# Altium footprint library Package_TO_SOT_SMD.PcbLib: 125 footprints (part 1 of 8)
Each footprint in its own frame and in the unit in brackets; x right, y up, seen from the top. Pads: shape width x height; smd on the part's side, far side on the other; paste and mask are expansions set on the pad; w line width, h text height; cw(c..) or ccw(c..) is an arc to the next point about the centre after c.
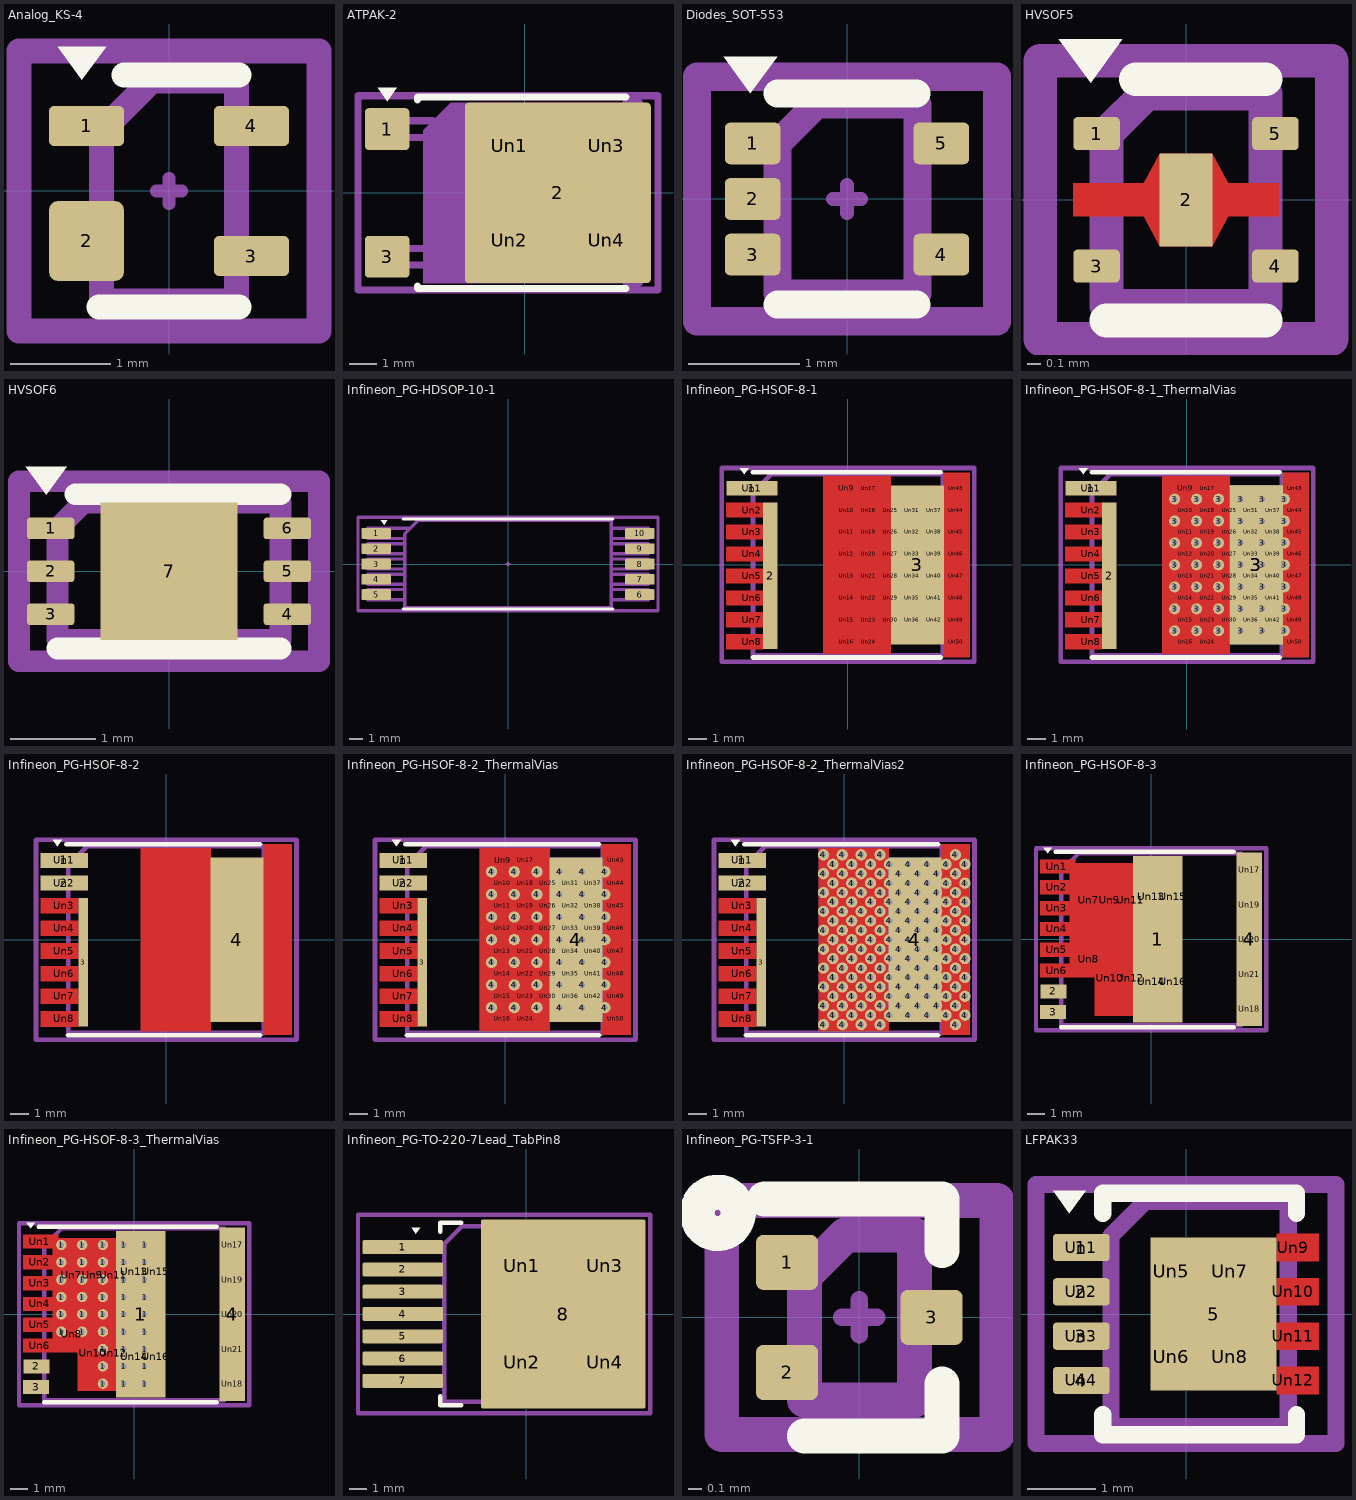
[diagram p0: the footprints below, top view; thin cyan lines are the x and y axes]

## Analog_KS-4 [mm] "Analog_KS-4"
pads (4):
  rrect25% 0.75x0.4 smd: 1(-0.825,0.65) 3(0.825,-0.65) 4(0.825,0.65)
  rrect25% 0.75x0.8 smd: 2(-0.825,-0.5)
F.SilkS:
  region: -0.87,1.11 -1.11,1.44 -0.63,1.44
  lines w0.254: -0.7,-1.16 0.7,-1.16 ; -0.45,1.16 0.7,1.16
Top Component Center:
  lines w0.127: -0.127,0 0.127,0 ; 0,-0.127 0,0.127
Top Assembly:
  lines w0.254: -0.675,-1.1 -0.675,0.6 -0.175,1.1 0.675,1.1 0.675,-1.1 -0.675,-1.1
Top Courtyard:
  lines w0.254: -1.5,-1.4 -1.5,1.4 1.5,1.4 1.5,-1.4 -1.5,-1.4
Top Designator:
  text ".Designator" at -2.253,-0.301 h1
3D body "Analog_KS-4.step": height 1, standoff 0, extent -1.05,-1 1.05,1

## ATPAK-2 [mm] "ATPAK-2"
pads (7):
  rrect17% 1.6x1.5 smd: 1(-4.95,2.3) 3(-4.95,-2.3)
  rrect4% 6.7x6.5 smd: 2(1.2,0)
  rrect8% 3.2x3.1 on Top Paste: Un1(-0.55,1.7) Un2(-0.55,-1.7) Un3(2.95,1.7) Un4(2.95,-1.7)
F.SilkS:
  region: -4.95,3.31 -5.29,3.78 -4.61,3.78
  lines w0.254: -3.85,-3.35 -3.85,-3.45 3.65,-3.45 ; -3.85,3.35 -3.85,3.45 3.65,3.45
Top Component Center:
  lines w0.127: -0.127,0 0.127,0 ; 0,-0.127 0,0.127
Top Assembly:
  region: 3.65,-3.25 -3.65,-3.25 -3.65,2.25 -2.65,3.25 3.65,3.25
  lines w0.254: -3.65,-2.6 -5.35,-2.6 -5.35,-2 -3.65,-2 ; -3.65,2 -5.35,2 -5.35,2.6 -3.3,2.6 ; 3.65,-3.25 4.15,-3.25 4.15,3.25 3.65,3.25
Top Courtyard:
  lines w0.254: -6,-3.5 -6,3.5 4.81,3.5 4.81,-3.5 -6,-3.5
Top Designator:
  text ".Designator" at -3.432,-0.345 h1.52
3D body "ATPAK-2.step": height 1.52, standoff 0, extent -5.35,-3.25 4.15,3.25

## Diodes_SOT-553 [mm] "Diodes_SOT-553"
pads (5):
  rrect25% 0.5x0.375 smd: 1(-0.85,0.5) 2(-0.85,0) 3(-0.85,-0.5) 4(0.85,-0.5) 5(0.85,0.5)
F.SilkS:
  region: -0.87,0.95 -1.11,1.28 -0.63,1.28
  lines w0.254: -0.625,-0.95 0.625,-0.95 ; -0.625,0.95 0.625,0.95
Top Component Center:
  lines w0.127: -0.127,0 0.127,0 ; 0,-0.127 0,0.127
Top Assembly:
  lines w0.254: -0.275,0.85 -0.625,0.5 -0.625,-0.85 0.635,-0.85 0.635,0.85 -0.25,0.85
Top Courtyard:
  lines w0.254: -1.35,-1.1 1.35,-1.1 1.35,1.1 -1.35,1.1 -1.35,-1.1
Top Designator:
  text ".Designator" at -2.253,-0.226 h1

## HVSOF5 [mm] "HVSOF5"
pads (5):
  rrect25% 0.35x0.25 smd: 1(-0.675,0.5) 3(-0.675,-0.5) 4(0.675,-0.5) 5(0.675,0.5)
  rect 0.4x0.7 smd: 2(0,0)
F.Cu:
  region: 0.32,0.125 0.7,0.125 0.7,-0.125 0.32,-0.125 0.2,-0.35 -0.2,-0.35 -0.32,-0.125 -0.85,-0.125 -0.85,0.125 -0.32,0.125 -0.2,0.35 0.2,0.35
F.SilkS:
  region: -0.72,0.884 -0.96,1.214 -0.48,1.214
  lines w0.254: -0.6,-0.91 0.6,-0.91 ; -0.38,0.91 0.6,0.91
F.Paste:
  region: 0.32,0.125 0.7,0.125 0.7,-0.125 0.32,-0.125 0.2,-0.35 -0.2,-0.35 -0.32,-0.125 -0.85,-0.125 -0.85,0.125 -0.32,0.125 -0.2,0.35 0.2,0.35
F.Mask:
  region: 0.32,0.125 0.7,0.125 0.7,-0.125 0.32,-0.125 0.2,-0.35 -0.2,-0.35 -0.32,-0.125 -0.85,-0.125 -0.85,0.125 -0.32,0.125 -0.2,0.35 0.2,0.35
Top Component Center:
  lines w0.127: -0.127,0 0.127,0 ; 0,-0.127 0,0.127
Top Assembly:
  lines w0.254: -0.6,-0.8 0.6,-0.8 0.6,0.8 -0.3,0.8 -0.6,0.5 -0.6,-0.8
Top Courtyard:
  lines w0.254: -1.1,-1.05 1.1,-1.05 1.1,1.05 -1.1,1.05 -1.1,-1.05
Top Designator:
  text ".Designator" at -2.253,-0.301 h1
3D body "HVSOF5.step": height 0.63, standoff 0, extent -0.8,-0.8 0.8,0.8

## HVSOF6 [mm] "HVSOF6"
pads (7):
  rrect25% 0.55x0.25 smd: 1(-1.38,0.5) 2(-1.38,0) 3(-1.38,-0.5) 4(1.38,-0.5) 5(1.38,0) 6(1.38,0.5)
  rect 1.6x1.6 smd: 7(0,0)
F.SilkS:
  region: -1.43,0.89 -1.67,1.22 -1.19,1.22
  lines w0.254: -1.3,-0.9 1.3,-0.9 ; -1.09,0.9 1.3,0.9
Top Component Center:
  lines w0.127: -0.127,0 0.127,0 ; 0,-0.127 0,0.127
Top Assembly:
  lines w0.254: -1.3,-0.8 -1.3,0.5 -1,0.8 1.3,0.8 1.3,-0.8 -1.3,-0.8
Top Courtyard:
  lines w0.254: -1.75,-1.05 -1.75,1.05 1.75,1.05 1.75,-1.05 -1.75,-1.05
Top Designator:
  text ".Designator" at -2.705,-0.272 h1.2
3D body "HVSOF6.step": height 0.78, standoff 0, extent -1.5,-0.8 1.5,0.8

## Infineon_PG-HDSOP-10-1 [mm] "Infineon_PG-HDSOP-10-1"
pads (10):
  rrect25% 2.2x0.8 smd: 1(-9.85,2.28) 2(-9.85,1.14) 3(-9.85,0) 4(-9.85,-1.14) 5(-9.85,-2.28) 6(9.85,-2.28) 7(9.85,-1.14) 8(9.85,0) 9(9.85,1.14) 10(9.85,2.28)
F.SilkS:
  region: -9.25,2.94 -9.49,3.27 -9.01,3.27
  lines w0.254: -7.81,-3.36 7.81,-3.36 ; -7.81,3.36 7.81,3.36
Top Component Center:
  lines w0.127: -0.127,0 0.127,0 ; 0,-0.127 0,0.127
Top Assembly:
  lines w0.254: -7.7,-2.655 -10.48,-2.655 -10.48,-1.905 -7.7,-1.905 ; -7.7,-1.515 -10.48,-1.515 -10.48,-0.765 -7.7,-0.765 ; -7.7,-0.375 -10.48,-0.375 -10.48,0.375 -7.7,0.375 ; -7.7,0.765 -10.48,0.765 -10.48,1.515 -7.7,1.515 ; -7.7,1.905 -10.48,1.905 -10.48,2.655 -7.3,2.655 ; 7.7,-2.655 10.48,-2.655 10.48,-1.905 7.7,-1.905 ; 7.7,-1.515 10.48,-1.515 10.48,-0.765 7.7,-0.765 ; 7.7,-0.375 10.48,-0.375 10.48,0.375 7.7,0.375 ; 7.7,0.765 10.48,0.765 10.48,1.515 7.7,1.515 ; 7.7,1.905 10.48,1.905 10.48,2.655 7.7,2.655 ; -7.7,-3.25 -7.7,2.25 -6.7,3.25 7.7,3.25 7.7,-3.25 -7.7,-3.25
Top Courtyard:
  lines w0.254: -11.2,-3.5 -11.2,3.5 11.2,3.5 11.2,-3.5 -11.2,-3.5
Top Designator:
  text ".Designator" at -3.432,-0.345 h1.52

## Infineon_PG-HSOF-8-1 [mm] "Infineon_PG-HSOF-8-1"
pads (53):
  rect 2.8x0.8 smd: 1(-5.25,4.2)
  rect 0.8x8 smd: 2(-4.25,-0.6)
  rect 2.9x8.7 smd: 3(3.8,0)
  rect 2.6x0.7 on Top Paste: Un1(-5.25,4.2) Un2(-5.25,3) Un3(-5.25,1.8) Un4(-5.25,0.6) Un5(-5.25,-0.6) Un6(-5.25,-1.8) Un7(-5.25,-3) Un8(-5.25,-4.2)
  round 1 on Top Paste: Un9(-0.07,4.2) Un10(-0.07,3) Un11(-0.07,1.8) Un12(-0.07,0.6) Un13(-0.07,-0.6) Un14(-0.07,-1.8) Un15(-0.07,-3) Un16(-0.07,-4.2) Un17(1.13,4.2) Un18(1.13,3) Un19(1.13,1.8) Un20(1.13,0.6) Un21(1.13,-0.6) Un22(1.13,-1.8) Un23(1.13,-3) Un24(1.13,-4.2) Un25(2.33,3) Un26(2.33,1.8) Un27(2.33,0.6) Un28(2.33,-0.6) Un29(2.33,-1.8) Un30(2.33,-3) Un31(3.53,3) Un32(3.53,1.8) Un33(3.53,0.6) Un34(3.53,-0.6) Un35(3.53,-1.8) Un36(3.53,-3) Un37(4.73,3) Un38(4.73,1.8) Un39(4.73,0.6) Un40(4.73,-0.6) Un41(4.73,-1.8) Un42(4.73,-3) Un43(5.93,4.2) Un44(5.93,3) Un45(5.93,1.8) Un46(5.93,0.6) Un47(5.93,-0.6) Un48(5.93,-1.8) Un49(5.93,-3) Un50(5.93,-4.2)
F.Cu:
  region: -4.65,2.6 -6.65,2.6 -6.65,3.4 -4.65,3.4
  region: -4.65,1.4 -6.65,1.4 -6.65,2.2 -4.65,2.2
  region: -4.65,0.2 -6.65,0.2 -6.65,1 -4.65,1
  region: -4.65,-1 -6.65,-1 -6.65,-0.2 -4.65,-0.2
  region: -4.65,-2.2 -6.65,-2.2 -6.65,-1.4 -4.65,-1.4
  region: -4.65,-3.4 -6.65,-3.4 -6.65,-2.6 -4.65,-2.6
  region: -4.65,-4.6 -6.65,-4.6 -6.65,-3.8 -4.65,-3.8
  region: 6.65,-5.05 5.25,-5.05 5.25,5.05 6.65,5.05
  region: 2.35,-4.85 -1.35,-4.85 -1.35,4.85 2.35,4.85
F.SilkS:
  region: -5.66,4.96 -5.9,5.29 -5.42,5.29
  lines w0.254: -5.2,-5.06 5.07,-5.06 ; -5.2,5.06 5.07,5.06
F.Mask:
  region: -4.65,2.6 -6.65,2.6 -6.65,3.4 -4.65,3.4
  region: -4.65,1.4 -6.65,1.4 -6.65,2.2 -4.65,2.2
  region: -4.65,0.2 -6.65,0.2 -6.65,1 -4.65,1
  region: -4.65,-1 -6.65,-1 -6.65,-0.2 -4.65,-0.2
  region: -4.65,-2.2 -6.65,-2.2 -6.65,-1.4 -4.65,-1.4
  region: -4.65,-3.4 -6.65,-3.4 -6.65,-2.6 -4.65,-2.6
  region: -4.65,-4.6 -6.65,-4.6 -6.65,-3.8 -4.65,-3.8
  region: 6.65,-5.05 5.25,-5.05 5.25,5.05 6.65,5.05
  region: 2.35,-4.85 -1.35,-4.85 -1.35,4.85 2.35,4.85
Top Component Center:
  lines w0.127: -0.127,0 0.127,0 ; 0,-0.127 0,0.127
Top Assembly:
  lines w0.254: -5.188,-4.95 -5.188,3.95 -4.187,4.95 5.188,4.95 5.188,-4.95 -5.188,-4.95
Top Courtyard:
  lines w0.254: -6.9,-5.3 -6.9,5.3 6.9,5.3 6.9,-5.3 -6.9,-5.3
Top Designator:
  text ".Designator" at -3.432,-0.345 h1.52
3D body "Infineon_PG-HSOF-8-1.step": height 2.32, standoff 0, extent -5.787,-4.95 5.887,4.95

## Infineon_PG-HSOF-8-1_ThermalVias [mm] "Infineon_PG-HSOF-8-1_ThermalVias"
pads (96):
  rect 2.8x0.8 smd: 1(-5.25,4.2)
  rect 0.8x8 smd: 2(-4.25,-0.6)
  round 0.6 hole 0.3: 3(-0.67,-3.6) 3(-0.67,-2.4) 3(-0.67,-1.2) 3(-0.67,0) 3(-0.67,1.2) 3(-0.67,2.4) 3(-0.67,3.6) 3(0.53,-3.6) 3(0.53,-2.4) 3(0.53,-1.2) 3(0.53,0) 3(0.53,1.2) 3(0.53,2.4) 3(0.53,3.6) 3(1.73,-3.6) 3(1.73,-2.4) 3(1.73,-1.2) 3(1.73,0) 3(1.73,1.2) 3(1.73,2.4) 3(1.73,3.6) 3(2.93,-3.6) 3(2.93,-2.4) 3(2.93,-1.2) 3(2.93,0) 3(2.93,1.2) 3(2.93,2.4) 3(2.93,3.6) 3(4.13,-3.6) 3(4.13,-2.4) 3(4.13,-1.2) 3(4.13,0) 3(4.13,1.2) 3(4.13,2.4) 3(4.13,3.6) 3(5.33,-3.6) 3(5.33,-2.4) 3(5.33,-1.2) 3(5.33,0) 3(5.33,1.2) 3(5.33,2.4) 3(5.33,3.6)
  rect 2.9x8.7 smd: 3(3.8,0)
  rect 2.9x8.7 smd far side: 3(3.8,0)
  rect 2.6x0.7 on Top Paste: Un1(-5.25,4.2) Un2(-5.25,3) Un3(-5.25,1.8) Un4(-5.25,0.6) Un5(-5.25,-0.6) Un6(-5.25,-1.8) Un7(-5.25,-3) Un8(-5.25,-4.2)
  round 1 on Top Paste: Un9(-0.07,4.2) Un10(-0.07,3) Un11(-0.07,1.8) Un12(-0.07,0.6) Un13(-0.07,-0.6) Un14(-0.07,-1.8) Un15(-0.07,-3) Un16(-0.07,-4.2) Un17(1.13,4.2) Un18(1.13,3) Un19(1.13,1.8) Un20(1.13,0.6) Un21(1.13,-0.6) Un22(1.13,-1.8) Un23(1.13,-3) Un24(1.13,-4.2) Un25(2.33,3) Un26(2.33,1.8) Un27(2.33,0.6) Un28(2.33,-0.6) Un29(2.33,-1.8) Un30(2.33,-3) Un31(3.53,3) Un32(3.53,1.8) Un33(3.53,0.6) Un34(3.53,-0.6) Un35(3.53,-1.8) Un36(3.53,-3) Un37(4.73,3) Un38(4.73,1.8) Un39(4.73,0.6) Un40(4.73,-0.6) Un41(4.73,-1.8) Un42(4.73,-3) Un43(5.93,4.2) Un44(5.93,3) Un45(5.93,1.8) Un46(5.93,0.6) Un47(5.93,-0.6) Un48(5.93,-1.8) Un49(5.93,-3) Un50(5.93,-4.2)
F.Cu:
  region: -4.65,2.6 -6.65,2.6 -6.65,3.4 -4.65,3.4
  region: -4.65,1.4 -6.65,1.4 -6.65,2.2 -4.65,2.2
  region: -4.65,0.2 -6.65,0.2 -6.65,1 -4.65,1
  region: -4.65,-1 -6.65,-1 -6.65,-0.2 -4.65,-0.2
  region: -4.65,-2.2 -6.65,-2.2 -6.65,-1.4 -4.65,-1.4
  region: -4.65,-3.4 -6.65,-3.4 -6.65,-2.6 -4.65,-2.6
  region: -4.65,-4.6 -6.65,-4.6 -6.65,-3.8 -4.65,-3.8
  region: 6.65,-5.05 5.25,-5.05 5.25,5.05 6.65,5.05
  region: 2.35,-4.85 -1.35,-4.85 -1.35,4.85 2.35,4.85
B.Cu:
  region: 6.65,-5.05 5.25,-5.05 5.25,5.05 6.65,5.05
  region: 2.35,-4.85 -1.35,-4.85 -1.35,4.85 2.35,4.85
F.SilkS:
  region: -5.66,4.96 -5.9,5.29 -5.42,5.29
  lines w0.254: -5.2,-5.06 5.07,-5.06 ; -5.2,5.06 5.07,5.06
F.Mask:
  region: -4.65,2.6 -6.65,2.6 -6.65,3.4 -4.65,3.4
  region: -4.65,1.4 -6.65,1.4 -6.65,2.2 -4.65,2.2
  region: -4.65,0.2 -6.65,0.2 -6.65,1 -4.65,1
  region: -4.65,-1 -6.65,-1 -6.65,-0.2 -4.65,-0.2
  region: -4.65,-2.2 -6.65,-2.2 -6.65,-1.4 -4.65,-1.4
  region: -4.65,-3.4 -6.65,-3.4 -6.65,-2.6 -4.65,-2.6
  region: -4.65,-4.6 -6.65,-4.6 -6.65,-3.8 -4.65,-3.8
  region: 6.65,-5.05 5.25,-5.05 5.25,5.05 6.65,5.05
  region: 2.35,-4.85 -1.35,-4.85 -1.35,4.85 2.35,4.85
Top Component Center:
  lines w0.127: -0.127,0 0.127,0 ; 0,-0.127 0,0.127
Top Assembly:
  lines w0.254: -5.188,-4.95 -5.188,3.95 -4.187,4.95 5.188,4.95 5.188,-4.95 -5.188,-4.95
Top Courtyard:
  lines w0.254: -6.9,-5.3 -6.9,5.3 6.9,5.3 6.9,-5.3 -6.9,-5.3
Top Designator:
  text ".Designator" at -3.432,-0.345 h1.52
3D body "Infineon_PG-HSOF-8-1.step": height 2.32, standoff 0, extent -5.787,-4.95 5.887,4.95

## Infineon_PG-HSOF-8-2 [mm] "Infineon_PG-HSOF-8-2"
pads (12):
  rect 2.5x0.8 smd: 1(-5.4,4.2) 2(-5.4,3)
  rect 0.5x6.8 smd: 3(-4.4,-1.2)
  rect 2.8x8.7 smd: 4(3.75,0)
  rect 2.35x0.7 on Top Paste: Un1(-5.4,4.2) Un2(-5.4,3) Un3(-5.4,1.8) Un4(-5.4,0.6) Un5(-5.4,-0.6) Un6(-5.4,-1.8) Un7(-5.4,-3) Un8(-5.4,-4.2)
F.Cu:
  region: -4.65,1.4 -6.65,1.4 -6.65,2.2 -4.65,2.2
  region: -4.65,0.2 -6.65,0.2 -6.65,1 -4.65,1
  region: -4.65,-1 -6.65,-1 -6.65,-0.2 -4.65,-0.2
  region: -4.65,-2.2 -6.65,-2.2 -6.65,-1.4 -4.65,-1.4
  region: -4.65,-3.4 -6.65,-3.4 -6.65,-2.6 -4.65,-2.6
  region: -4.65,-4.6 -6.65,-4.6 -6.65,-3.8 -4.65,-3.8
  region: 6.65,-5.05 5.15,-5.05 5.15,5.05 6.65,5.05
  region: 2.35,-4.85 -1.35,-4.85 -1.35,4.85 2.35,4.85
F.SilkS:
  region: -5.76,4.96 -6,5.29 -5.52,5.29
  lines w0.254: -5.3,5.06 4.97,5.06 ; -5.2,-5.06 4.97,-5.06
F.Paste:
  region: 6.65,-5.05 5.15,-5.05 5.15,5.05 6.65,5.05
  region: 2.35,-4.85 -1.35,-4.85 -1.35,4.85 2.35,4.85
F.Mask:
  region: -4.65,1.4 -6.65,1.4 -6.65,2.2 -4.65,2.2
  region: -4.65,0.2 -6.65,0.2 -6.65,1 -4.65,1
  region: -4.65,-1 -6.65,-1 -6.65,-0.2 -4.65,-0.2
  region: -4.65,-2.2 -6.65,-2.2 -6.65,-1.4 -4.65,-1.4
  region: -4.65,-3.4 -6.65,-3.4 -6.65,-2.6 -4.65,-2.6
  region: -4.65,-4.6 -6.65,-4.6 -6.65,-3.8 -4.65,-3.8
  region: 6.65,-5.05 5.15,-5.05 5.15,5.05 6.65,5.05
  region: 2.35,-4.85 -1.35,-4.85 -1.35,4.85 2.35,4.85
Top Component Center:
  lines w0.127: -0.127,0 0.127,0 ; 0,-0.127 0,0.127
Top Assembly:
  lines w0.254: -5.188,-4.95 -5.188,3.95 -4.187,4.95 5.188,4.95 5.188,-4.95 -5.188,-4.95
Top Courtyard:
  lines w0.254: -6.9,-5.3 -6.9,5.3 6.9,5.3 6.9,-5.3 -6.9,-5.3
Top Designator:
  text ".Designator" at -3.432,-0.345 h1.52
3D body "Infineon_PG-HSOF-8-1.step": height 2.32, standoff 0, extent -5.787,-4.95 5.887,4.95

## Infineon_PG-HSOF-8-2_ThermalVias [mm] "Infineon_PG-HSOF-8-2_ThermalVias"
pads (97):
  rect 2.5x0.8 smd: 1(-5.4,4.2) 2(-5.4,3)
  rect 0.5x6.8 smd: 3(-4.4,-1.2)
  round 0.6 hole 0.3: 4(-0.72,-3.6) 4(-0.72,-2.4) 4(-0.72,-1.2) 4(-0.72,0) 4(-0.72,1.2) 4(-0.72,2.4) 4(-0.72,3.6) 4(0.48,-3.6) 4(0.48,-2.4) 4(0.48,-1.2) 4(0.48,0) 4(0.48,1.2) 4(0.48,2.4) 4(0.48,3.6) 4(1.68,-3.6) 4(1.68,-2.4) 4(1.68,-1.2) 4(1.68,0) 4(1.68,1.2) 4(1.68,2.4) 4(1.68,3.6) 4(2.88,-3.6) 4(2.88,-2.4) 4(2.88,-1.2) 4(2.88,0) 4(2.88,1.2) 4(2.88,2.4) 4(2.88,3.6) 4(4.08,-3.6) 4(4.08,-2.4) 4(4.08,-1.2) 4(4.08,0) 4(4.08,1.2) 4(4.08,2.4) 4(4.08,3.6) 4(5.28,-3.6) 4(5.28,-2.4) 4(5.28,-1.2) 4(5.28,0) 4(5.28,1.2) 4(5.28,2.4) 4(5.28,3.6)
  rect 2.8x8.7 smd: 4(3.75,0)
  rect 2.8x8.7 smd far side: 4(3.75,0)
  rect 2.35x0.7 on Top Paste: Un1(-5.4,4.2) Un2(-5.4,3) Un3(-5.4,1.8) Un4(-5.4,0.6) Un5(-5.4,-0.6) Un6(-5.4,-1.8) Un7(-5.4,-3) Un8(-5.4,-4.2)
  round 1 on Top Paste: Un9(-0.12,4.2) Un10(-0.12,3) Un11(-0.12,1.8) Un12(-0.12,0.6) Un13(-0.12,-0.6) Un14(-0.12,-1.8) Un15(-0.12,-3) Un16(-0.12,-4.2) Un17(1.08,4.2) Un18(1.08,3) Un19(1.08,1.8) Un20(1.08,0.6) Un21(1.08,-0.6) Un22(1.08,-1.8) Un23(1.08,-3) Un24(1.08,-4.2) Un25(2.28,3) Un26(2.28,1.8) Un27(2.28,0.6) Un28(2.28,-0.6) Un29(2.28,-1.8) Un30(2.28,-3) Un31(3.48,3) Un32(3.48,1.8) Un33(3.48,0.6) Un34(3.48,-0.6) Un35(3.48,-1.8) Un36(3.48,-3) Un37(4.68,3) Un38(4.68,1.8) Un39(4.68,0.6) Un40(4.68,-0.6) Un41(4.68,-1.8) Un42(4.68,-3) Un43(5.88,4.2) Un44(5.88,3) Un45(5.88,1.8) Un46(5.88,0.6) Un47(5.88,-0.6) Un48(5.88,-1.8) Un49(5.88,-3) Un50(5.88,-4.2)
F.Cu:
  region: -4.65,1.4 -6.65,1.4 -6.65,2.2 -4.65,2.2
  region: -4.65,0.2 -6.65,0.2 -6.65,1 -4.65,1
  region: -4.65,-1 -6.65,-1 -6.65,-0.2 -4.65,-0.2
  region: -4.65,-2.2 -6.65,-2.2 -6.65,-1.4 -4.65,-1.4
  region: -4.65,-3.4 -6.65,-3.4 -6.65,-2.6 -4.65,-2.6
  region: -4.65,-4.6 -6.65,-4.6 -6.65,-3.8 -4.65,-3.8
  region: 6.65,-5.05 5.15,-5.05 5.15,5.05 6.65,5.05
  region: 2.35,-4.85 -1.35,-4.85 -1.35,4.85 2.35,4.85
B.Cu:
  region: 6.65,-5.05 5.15,-5.05 5.15,5.05 6.65,5.05
  region: 2.35,-4.85 -1.35,-4.85 -1.35,4.85 2.35,4.85
F.SilkS:
  region: -5.76,4.96 -6,5.29 -5.52,5.29
  lines w0.254: -5.3,5.06 4.97,5.06 ; -5.2,-5.06 4.97,-5.06
F.Mask:
  region: -4.65,1.4 -6.65,1.4 -6.65,2.2 -4.65,2.2
  region: -4.65,0.2 -6.65,0.2 -6.65,1 -4.65,1
  region: -4.65,-1 -6.65,-1 -6.65,-0.2 -4.65,-0.2
  region: -4.65,-2.2 -6.65,-2.2 -6.65,-1.4 -4.65,-1.4
  region: -4.65,-3.4 -6.65,-3.4 -6.65,-2.6 -4.65,-2.6
  region: -4.65,-4.6 -6.65,-4.6 -6.65,-3.8 -4.65,-3.8
  region: 6.65,-5.05 5.15,-5.05 5.15,5.05 6.65,5.05
  region: 2.35,-4.85 -1.35,-4.85 -1.35,4.85 2.35,4.85
Top Component Center:
  lines w0.127: -0.127,0 0.127,0 ; 0,-0.127 0,0.127
Top Assembly:
  lines w0.254: -5.188,-4.95 -5.188,3.95 -4.187,4.95 5.188,4.95 5.188,-4.95 -5.188,-4.95
Top Courtyard:
  lines w0.254: -6.9,-5.3 -6.9,5.3 6.9,5.3 6.9,-5.3 -6.9,-5.3
Top Designator:
  text ".Designator" at -3.432,-0.345 h1.52
3D body "Infineon_PG-HSOF-8-1.step": height 2.32, standoff 0, extent -5.787,-4.95 5.887,4.95

## Infineon_PG-HSOF-8-2_ThermalVias2 [mm] "Infineon_PG-HSOF-8-2_ThermalVias2"
pads (159):
  rect 2.5x0.8 smd: 1(-5.4,4.2) 2(-5.4,3)
  rect 0.5x6.8 smd: 3(-4.4,-1.2)
  round 0.6 hole 0.3: 4(-1.1,-4.5) 4(-1.1,-3.5) 4(-1.1,-2.5) 4(-1.1,-1.5) 4(-1.1,-0.5) 4(-1.1,0.5) 4(-1.1,1.5) 4(-1.1,2.5) 4(-1.1,3.5) 4(-1.1,4.5) 4(-0.6,-4) 4(-0.6,-3) 4(-0.6,-2) 4(-0.6,-1) 4(-0.6,0) 4(-0.6,1) 4(-0.6,2) 4(-0.6,3) 4(-0.6,4) 4(-0.1,-4.5) 4(-0.1,-3.5) 4(-0.1,-2.5) 4(-0.1,-1.5) 4(-0.1,-0.5) 4(-0.1,0.5) 4(-0.1,1.5) 4(-0.1,2.5) 4(-0.1,3.5) 4(-0.1,4.5) 4(0.4,-4) 4(0.4,-3) 4(0.4,-2) 4(0.4,-1) 4(0.4,0) 4(0.4,1) 4(0.4,2) 4(0.4,3) 4(0.4,4) 4(0.9,-4.5) 4(0.9,-3.5) 4(0.9,-2.5) 4(0.9,-1.5) 4(0.9,-0.5) 4(0.9,0.5) 4(0.9,1.5) 4(0.9,2.5) 4(0.9,3.5) 4(0.9,4.5) 4(1.4,-4) 4(1.4,-3) 4(1.4,-2) 4(1.4,-1) 4(1.4,0) 4(1.4,1) 4(1.4,2) 4(1.4,3) 4(1.4,4) 4(1.9,-4.5) 4(1.9,-3.5) 4(1.9,-2.5) 4(1.9,-1.5) 4(1.9,-0.5) 4(1.9,0.5) 4(1.9,1.5) 4(1.9,2.5) 4(1.9,3.5) 4(1.9,4.5) 4(2.4,-4) 4(2.4,-3) 4(2.4,-2) 4(2.4,-1) 4(2.4,0) 4(2.4,1) 4(2.4,2) 4(2.4,3) 4(2.4,4) 4(2.9,-3.5) 4(2.9,-2.5) 4(2.9,-1.5) 4(2.9,-0.5) 4(2.9,0.5) 4(2.9,1.5) 4(2.9,2.5) 4(2.9,3.5) 4(3.4,-4) 4(3.4,-3) 4(3.4,-2) 4(3.4,-1) 4(3.4,0) 4(3.4,1) 4(3.4,2) 4(3.4,3) 4(3.4,4) 4(3.9,-3.5) 4(3.9,-2.5) 4(3.9,-1.5) 4(3.9,-0.5) 4(3.9,0.5) 4(3.9,1.5) 4(3.9,2.5) 4(3.9,3.5) 4(4.4,-4) 4(4.4,-3) 4(4.4,-2) 4(4.4,-1) 4(4.4,0) 4(4.4,1) 4(4.4,2) 4(4.4,3) 4(4.4,4) 4(4.9,-3.5) 4(4.9,-2.5) 4(4.9,-1.5) 4(4.9,-0.5) 4(4.9,0.5) 4(4.9,1.5) 4(4.9,2.5) 4(4.9,3.5) 4(5.4,-4) 4(5.4,-3) 4(5.4,-2) 4(5.4,-1) 4(5.4,0) 4(5.4,1) 4(5.4,2) 4(5.4,3) 4(5.4,4) 4(5.9,-4.5) 4(5.9,-3.5) 4(5.9,-2.5) 4(5.9,-1.5) 4(5.9,-0.5) 4(5.9,0.5) 4(5.9,1.5) 4(5.9,2.5) 4(5.9,3.5) 4(5.9,4.5) 4(6.4,-4) 4(6.4,-3) 4(6.4,-2) 4(6.4,-1) 4(6.4,0) 4(6.4,1) 4(6.4,2) 4(6.4,3) 4(6.4,4)
  rect 2.8x8.7 smd: 4(3.75,0)
  rect 2.8x8.7 smd far side: 4(3.75,0)
  rect 2.35x0.7 on Top Paste: Un1(-5.4,4.2) Un2(-5.4,3) Un3(-5.4,1.8) Un4(-5.4,0.6) Un5(-5.4,-0.6) Un6(-5.4,-1.8) Un7(-5.4,-3) Un8(-5.4,-4.2)
F.Cu:
  region: -4.65,1.4 -6.65,1.4 -6.65,2.2 -4.65,2.2
  region: -4.65,0.2 -6.65,0.2 -6.65,1 -4.65,1
  region: -4.65,-1 -6.65,-1 -6.65,-0.2 -4.65,-0.2
  region: -4.65,-2.2 -6.65,-2.2 -6.65,-1.4 -4.65,-1.4
  region: -4.65,-3.4 -6.65,-3.4 -6.65,-2.6 -4.65,-2.6
  region: -4.65,-4.6 -6.65,-4.6 -6.65,-3.8 -4.65,-3.8
  region: 6.65,-5.05 5.15,-5.05 5.15,5.05 6.65,5.05
  region: 2.35,-4.85 -1.35,-4.85 -1.35,4.85 2.35,4.85
B.Cu:
  region: 6.65,-5.05 5.15,-5.05 5.15,5.05 6.65,5.05
  region: 2.35,-4.85 -1.35,-4.85 -1.35,4.85 2.35,4.85
F.SilkS:
  region: -5.76,4.96 -6,5.29 -5.52,5.29
  lines w0.254: -5.3,5.06 4.97,5.06 ; -5.2,-5.06 4.97,-5.06
F.Paste:
  region: 6.65,-5.05 5.15,-5.05 5.15,5.05 6.65,5.05
  region: 2.35,-4.85 -1.35,-4.85 -1.35,4.85 2.35,4.85
F.Mask:
  region: -4.65,1.4 -6.65,1.4 -6.65,2.2 -4.65,2.2
  region: -4.65,0.2 -6.65,0.2 -6.65,1 -4.65,1
  region: -4.65,-1 -6.65,-1 -6.65,-0.2 -4.65,-0.2
  region: -4.65,-2.2 -6.65,-2.2 -6.65,-1.4 -4.65,-1.4
  region: -4.65,-3.4 -6.65,-3.4 -6.65,-2.6 -4.65,-2.6
  region: -4.65,-4.6 -6.65,-4.6 -6.65,-3.8 -4.65,-3.8
  region: 6.65,-5.05 5.15,-5.05 5.15,5.05 6.65,5.05
  region: 2.35,-4.85 -1.35,-4.85 -1.35,4.85 2.35,4.85
Top Component Center:
  lines w0.127: -0.127,0 0.127,0 ; 0,-0.127 0,0.127
Top Assembly:
  lines w0.254: -5.188,-4.95 -5.188,3.95 -4.187,4.95 5.188,4.95 5.188,-4.95 -5.188,-4.95
Top Courtyard:
  lines w0.254: -6.9,-5.3 -6.9,5.3 6.9,5.3 6.9,-5.3 -6.9,-5.3
Top Designator:
  text ".Designator" at -3.432,-0.345 h1.52
3D body "Infineon_PG-HSOF-8-1.step": height 2.32, standoff 0, extent -5.787,-4.95 5.887,4.95

## Infineon_PG-HSOF-8-3 [mm] "Infineon_PG-HSOF-8-3"
pads (25):
  rect 2.85x9.6 smd: 1(0.385,0)
  rect 1.5x0.8 smd: 2(-5.64,-3) 3(-5.65,-4.2)
  rect 1.45x10 smd: 4(5.66,0)
  rect 1.8x0.8 on Top Paste: Un1(-5.44,4.2) Un2(-5.44,3) Un3(-5.44,1.8) Un4(-5.44,0.6) Un5(-5.44,-0.6) Un6(-5.44,-1.8)
  rect 0.8x4.1 on Top Paste: Un7(-3.6,2.25) Un9(-2.4,2.25) Un10(-2.4,-2.25) Un11(-1.2,2.25) Un12(-1.2,-2.25)
  rect 0.8x1.9 on Top Paste: Un8(-3.6,-1.15)
  rect 0.8x4.5 on Top Paste: Un13(0,2.45) Un14(0,-2.45) Un15(1.26,2.45) Un16(1.26,-2.45)
  rect 1.35x1.5 on Top Paste: Un17(5.65,4) Un18(5.65,-4) Un19(5.66,2) Un20(5.66,0) Un21(5.66,-2)
F.Cu:
  region: -4.39,4.4 -1.04,4.4 -1.04,-4.4 -3.24,-4.4 -3.24,-2.2 -6.39,-2.2 -6.39,-1.4 -4.69,-1.4 -4.69,-1 -6.39,-1 -6.39,-0.2 -4.69,-0.2 -4.69,0.2 -6.39,0.2 -6.39,1 -4.69,1 -4.69,1.4 -6.39,1.4 -6.39,2.2 -4.69,2.2 -4.69,2.6 -6.39,2.6 -6.39,3.4 -4.69,3.4 -4.69,3.8 -6.39,3.8 -6.39,4.6 -4.39,4.6
F.SilkS:
  region: -5.975,4.96 -6.215,5.29 -5.735,5.29
  lines w0.254: -5.515,5.06 4.755,5.06 ; -5.2,-5.06 4.755,-5.06
F.Mask:
  region: -4.39,4.4 -1.04,4.4 -1.04,-4.4 -3.24,-4.4 -3.24,-2.2 -6.39,-2.2 -6.39,-1.4 -4.69,-1.4 -4.69,-1 -6.39,-1 -6.39,-0.2 -4.69,-0.2 -4.69,0.2 -6.39,0.2 -6.39,1 -4.69,1 -4.69,1.4 -6.39,1.4 -6.39,2.2 -4.69,2.2 -4.69,2.6 -6.39,2.6 -6.39,3.4 -4.69,3.4 -4.69,3.8 -6.39,3.8 -6.39,4.6 -4.39,4.6
Top Component Center:
  lines w0.127: -0.127,0 0.127,0 ; 0,-0.127 0,0.127
Top Assembly:
  lines w0.254: -5.188,-4.95 -5.188,3.95 -4.187,4.95 5.188,4.95 5.188,-4.95 -5.188,-4.95
Top Courtyard:
  lines w0.254: -6.64,-5.25 -6.64,5.25 6.64,5.25 6.64,-5.25 -6.64,-5.25
Top Designator:
  text ".Designator" at -3.432,-0.345 h1.52
3D body "Infineon_PG-HSOF-8-1.step": height 2.32, standoff 0, extent -5.787,-4.95 5.887,4.95

## Infineon_PG-HSOF-8-3_ThermalVias [mm] "Infineon_PG-HSOF-8-3_ThermalVias"
pads (64):
  round 0.6 hole 0.3: 1(-4.2,-1) 1(-4.2,0) 1(-4.2,1) 1(-4.2,2) 1(-4.2,3) 1(-4.2,4) 1(-3,-1) 1(-3,0) 1(-3,1) 1(-3,2) 1(-3,3) 1(-3,4) 1(-1.8,-4) 1(-1.8,-3) 1(-1.8,-2) 1(-1.8,-1) 1(-1.8,0) 1(-1.8,1) 1(-1.8,2) 1(-1.8,3) 1(-1.8,4) 1(-0.6,-4) 1(-0.6,-3) 1(-0.6,-2) 1(-0.6,-1) 1(-0.6,0) 1(-0.6,1) 1(-0.6,2) 1(-0.6,3) 1(-0.6,4) 1(0.6,-4) 1(0.6,-3) 1(0.6,-2) 1(0.6,-1) 1(0.6,0) 1(0.6,1) 1(0.6,2) 1(0.6,3) 1(0.6,4)
  rect 2.85x9.6 smd: 1(0.385,0)
  rect 1.5x0.8 smd: 2(-5.64,-3) 3(-5.65,-4.2)
  rect 1.45x10 smd: 4(5.66,0)
  rect 1.8x0.8 on Top Paste: Un1(-5.44,4.2) Un2(-5.44,3) Un3(-5.44,1.8) Un4(-5.44,0.6) Un5(-5.44,-0.6) Un6(-5.44,-1.8)
  rect 0.8x4.1 on Top Paste: Un7(-3.6,2.25) Un9(-2.4,2.25) Un10(-2.4,-2.25) Un11(-1.2,2.25) Un12(-1.2,-2.25)
  rect 0.8x1.9 on Top Paste: Un8(-3.6,-1.15)
  rect 0.8x4.5 on Top Paste: Un13(0,2.45) Un14(0,-2.45) Un15(1.26,2.45) Un16(1.26,-2.45)
  rect 1.35x1.5 on Top Paste: Un17(5.65,4) Un18(5.65,-4) Un19(5.66,2) Un20(5.66,0) Un21(5.66,-2)
F.Cu:
  region: -4.39,4.4 -1.04,4.4 -1.04,-4.4 -3.24,-4.4 -3.24,-2.2 -6.39,-2.2 -6.39,-1.4 -4.69,-1.4 -4.69,-1 -6.39,-1 -6.39,-0.2 -4.69,-0.2 -4.69,0.2 -6.39,0.2 -6.39,1 -4.69,1 -4.69,1.4 -6.39,1.4 -6.39,2.2 -4.69,2.2 -4.69,2.6 -6.39,2.6 -6.39,3.4 -4.69,3.4 -4.69,3.8 -6.39,3.8 -6.39,4.6 -4.39,4.6
F.SilkS:
  region: -5.975,4.96 -6.215,5.29 -5.735,5.29
  lines w0.254: -5.515,5.06 4.755,5.06 ; -5.2,-5.06 4.755,-5.06
F.Mask:
  region: -4.39,4.4 -1.04,4.4 -1.04,-4.4 -3.24,-4.4 -3.24,-2.2 -6.39,-2.2 -6.39,-1.4 -4.69,-1.4 -4.69,-1 -6.39,-1 -6.39,-0.2 -4.69,-0.2 -4.69,0.2 -6.39,0.2 -6.39,1 -4.69,1 -4.69,1.4 -6.39,1.4 -6.39,2.2 -4.69,2.2 -4.69,2.6 -6.39,2.6 -6.39,3.4 -4.69,3.4 -4.69,3.8 -6.39,3.8 -6.39,4.6 -4.39,4.6
Top Component Center:
  lines w0.127: -0.127,0 0.127,0 ; 0,-0.127 0,0.127
Top Assembly:
  lines w0.254: -5.188,-4.95 -5.188,3.95 -4.187,4.95 5.188,4.95 5.188,-4.95 -5.188,-4.95
Top Courtyard:
  lines w0.254: -6.64,-5.25 -6.64,5.25 6.64,5.25 6.64,-5.25 -6.64,-5.25
Top Designator:
  text ".Designator" at -3.432,-0.345 h1.52
3D body "Infineon_PG-HSOF-8-1.step": height 2.32, standoff 0, extent -5.787,-4.95 5.887,4.95

## Infineon_PG-TO-220-7Lead_TabPin8 [mm] "Infineon_PG-TO-220-7Lead_TabPin8"
pads (12):
  rrect25% 4.6x0.8 smd: 1(-7.037,3.81) 2(-7.037,2.54) 3(-7.037,1.27) 4(-7.037,0) 5(-7.037,-1.27) 6(-7.037,-2.54) 7(-7.037,-3.81)
  rrect3% 9.4x10.8 smd: 8(2.113,0)
  rrect5% 4.6x5.3 on Top Paste: Un1(-0.262,2.75) Un2(-0.262,-2.75) Un3(4.487,2.75) Un4(4.487,-2.75)
F.SilkS:
  region: -6.29,4.58 -6.53,4.91 -6.05,4.91
  lines w0.254: -4.912,-4.7 -4.912,-4.8 -4.912,-5.2 -3.712,-5.2 ; -4.912,4.7 -4.912,5.2 -3.712,5.2
Top Component Center:
  lines w0.127: -0.127,0 0.127,0 ; 0,-0.127 0,0.127
Top Assembly:
  lines w0.254: 4.663,-5 -4.663,-5 -4.663,4 -3.662,5 4.663,5 ; 4.663,-5 4.663,5 ; 4.663,-5 5.663,-5 5.663,5 4.663,5
Top Courtyard:
  lines w0.254: -9.59,-5.65 -9.59,5.65 7.07,5.65 7.07,-5.65 -9.59,-5.65
Top Designator:
  text ".Designator" at -3.432,-0.345 h1.52
3D body "Infineon_PG-TO-220-7Lead_TabPin8.step": height 4.42, standoff 0, extent -8.225,-5 5.625,5

## Infineon_PG-TSFP-3-1 [mm] "Infineon_PG-TSFP-3-1"
pads (3):
  rrect25% 0.45x0.4 smd: 1(-0.525,0.4) 2(-0.525,-0.4) 3(0.525,0)
F.SilkS:
  circle w0.254: c-1.03,0.76 r0.15
  lines w0.254: -0.69,0.86 0.6,0.86 0.6,0.485 ; -0.4,-0.86 0.6,-0.86 0.6,-0.485
Top Component Center:
  lines w0.127: -0.127,0 0.127,0 ; 0,-0.127 0,0.127
Top Assembly:
  lines w0.254: -0.4,-0.6 -0.4,0.3 -0.1,0.6 0.4,0.6 0.4,-0.6 -0.4,-0.6
Top Courtyard:
  lines w0.254: -1,-0.85 -1,0.85 1,0.85 1,-0.85 -1,-0.85
Top Designator:
  text ".Designator" at -1.69,-0.17 h0.75

## LFPAK33 [mm] "LFPAK33"
pads (17):
  rrect25% 0.83x0.4 smd: 1(-1.535,0.975) 2(-1.535,0.325) 3(-1.535,-0.325) 4(-1.535,-0.975)
  rect 1.85x2.25 smd: 5(0.405,0)
  rrect25% 0.83x0.3 on Top Paste: Un1(-1.535,0.975) Un2(-1.535,0.325) Un3(-1.535,-0.325) Un4(-1.535,-0.975) Un9(1.575,0.975) Un10(1.575,0.325) Un11(1.575,-0.325) Un12(1.575,-0.975)
  rrect25% 0.51x0.635 on Top Paste: Un5(-0.215,0.626) Un6(-0.215,-0.626) Un7(0.645,0.626) Un8(0.645,-0.626)
F.Cu:
  region: 1.95,0.775 1.33,0.775 1.33,1.175 1.95,1.175
  region: 1.95,0.125 1.33,0.125 1.33,0.525 1.95,0.525
  region: 1.95,-0.525 1.33,-0.525 1.33,-0.125 1.95,-0.125
  region: 1.95,-1.175 1.33,-1.175 1.33,-0.775 1.95,-0.775
F.SilkS:
  region: -1.71,1.48 -1.95,1.81 -1.47,1.81
  lines w0.254: -1.22,-1.475 -1.22,-1.77 1.62,-1.77 1.62,-1.475 ; -1.22,1.475 -1.22,1.77 1.62,1.77 1.62,1.475
F.Mask:
  region: 1.95,0.775 1.33,0.775 1.33,1.175 1.95,1.175
  region: 1.95,0.125 1.33,0.125 1.33,0.525 1.95,0.525
  region: 1.95,-0.525 1.33,-0.525 1.33,-0.125 1.95,-0.125
  region: 1.95,-1.175 1.33,-1.175 1.33,-0.775 1.95,-0.775
Top Component Center:
  lines w0.127: -0.127,0 0.127,0 ; 0,-0.127 0,0.127
Top Assembly:
  lines w0.254: -1.1,-1.65 -1.1,1.15 -0.6,1.65 1.5,1.65 1.5,-1.65 -1.1,-1.65
Top Courtyard:
  lines w0.254: -2.2,-1.9 -2.2,1.9 2.2,1.9 2.2,-1.9 -2.2,-1.9
Top Designator:
  text ".Designator" at -3.432,-0.475 h1.52
3D body "LFPAK33.step": height 0.87, standoff 0, extent -1.65,-1.648 1.65,1.648